# EAGLE library part TPS2042 (library TI)
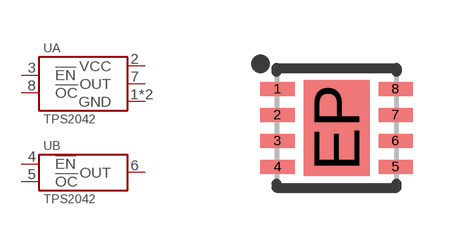
[diagram p4: symbol with the pads of SON-8; footprint SON-8]

Designator prefix U; gates A=TPS2042 B=TPS2042-2

## TPS2042  [SON-8]
1  A:GND
2  A:VCC
3  A:!EN
4  B:!EN
5  B:!OC
6  B:OUT
7  A:OUT
8  A:!OC
EP  A:GND

## Footprint SON-8 (pad centres in mm)
smd 0.85 x 0.35: 1 -1.475,0.975; 2 -1.475,0.325; 3 -1.475,-0.325; 4 -1.475,-0.975; 5 1.475,-0.975; 6 1.475,-0.325; 7 1.475,0.325; 8 1.475,0.975
smd 1.65 x 2.4: EP 0,0